# EAGLE library part TLI4970D050T5XUMA1 (library SamacSys_Parts)
Miniature coreless magnetic current sensor for AC and DC measurements with digital interface and fast overcurrent detection Source: Datasheet <https://componentsearchengine.com/Datasheets/1/TLI4970D050T5XUMA1.pdf>
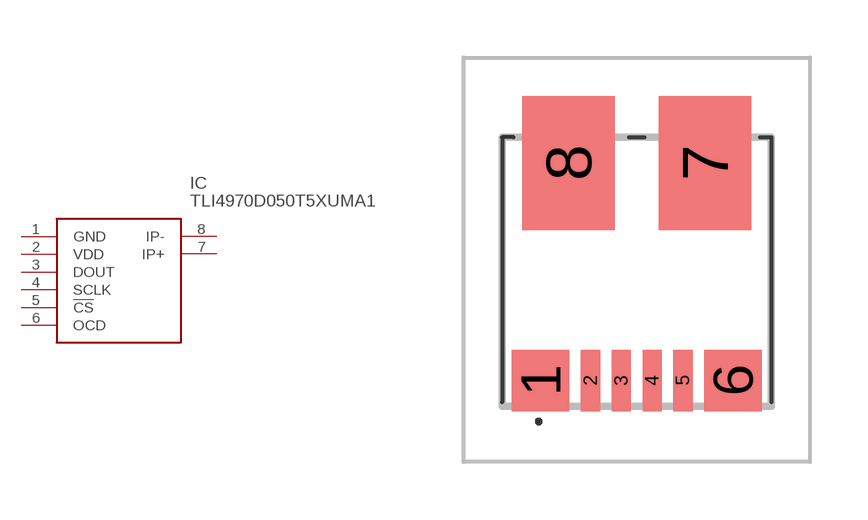
[diagram p5: symbol with the pads of TLI4970D050T5XUMA1; footprint TLI4970D050T5XUMA1]

Designator prefix IC

## TLI4970D050T5XUMA1 (DESCRIPTION: Miniature coreless magnetic current sensor for AC and DC measurements with digital interface and fast overcurrent detection; HEIGHT: 1.05mm; MANUFACTURER_NAME: Infineon; MANUFACTURER_PART_NUMBER: TLI4970D050T5XUMA1; MOUSER_PART_NUMBER: 726-TLI4970D050T5XU1; MOUSER_PRICE-STOCK: https://www.mouser.co.uk/ProductDetail/Infineon-Technologies/TLI4970D050T5XUMA1?qs=3jdCaFhktORykOMjhmdELg%3D%3D)  [TLI4970D050T5XUMA1]
1  GND
2  VDD
3  DOUT
4  SCLK
5  !CS
6  OCD
7  IP+
8  IP-

## Footprint TLI4970D050T5XUMA1 (pad centres in mm)
TLI4970D050T5XUMA1-2
smd 1.5 x 1.6: 1 -2.5,-2.83; 6 2.5,-2.83
smd 0.5 x 1.6: 2 -1.2,-2.83; 3 -0.4,-2.83; 4 0.4,-2.83; 5 1.2,-2.83
smd 2.4 x 3.48: 7 1.775,2.83; 8 -1.775,2.83